# Altium footprint library CAPPRD500W80D1250H2700.PcbLib: 1 footprints
Each footprint in its own frame and in the unit in brackets; x right, y up, seen from the top. Pads: shape width x height; smd on the part's side, far side on the other; paste and mask are expansions set on the pad; w line width, h text height; cw(c..) or ccw(c..) is an arc to the next point about the centre after c.
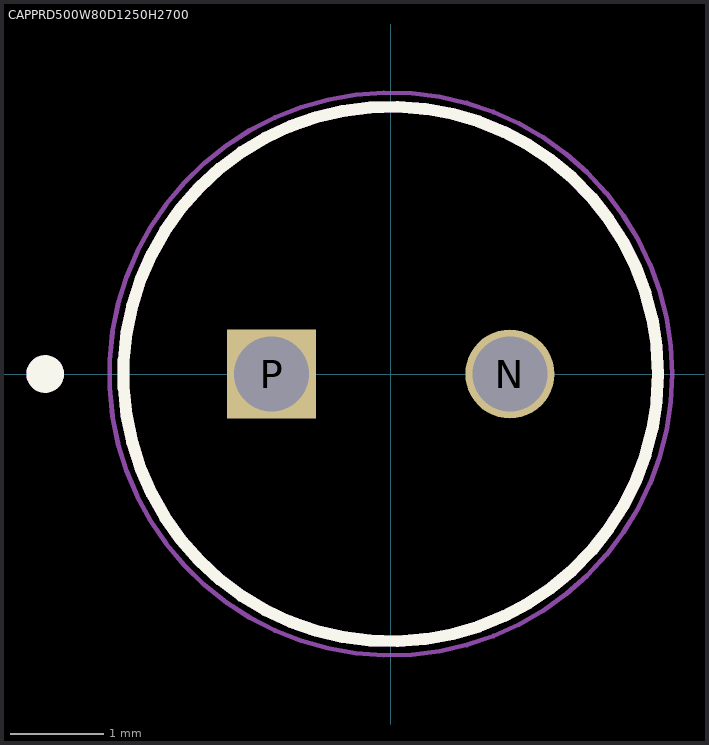
[diagram p0: the footprint, top view; thin cyan lines are the x and y axes]

## CAPPRD500W80D1250H2700 [mm]
pads (2):
  round 0.95 hole 0.8: N(1.27,0)
  rect 0.95x0.95 hole 0.8: P(-1.27,0)
Top Overlay:
  circle w0.127: c0,0 r2.85
  circle w0.2: c-3.683,0 r0.1
Mechanical 13:
  circle w0.127: c0,0 r2.85
  circle w0.2: c-3.683,0 r0.1
Mechanical 15:
  circle w0.05: c0,0 r3
3D body "UPM1C152MHD.STEP": height 17, standoff -19, extent 3.954,-7.603 21.954,10.397